# Altium footprint library TO-263-4.PcbLib: 1 footprints
Each footprint in its own frame and in the unit in brackets; x right, y up, seen from the top. Pads: shape width x height; smd on the part's side, far side on the other; paste and mask are expansions set on the pad; w line width, h text height; cw(c..) or ccw(c..) is an arc to the next point about the centre after c.
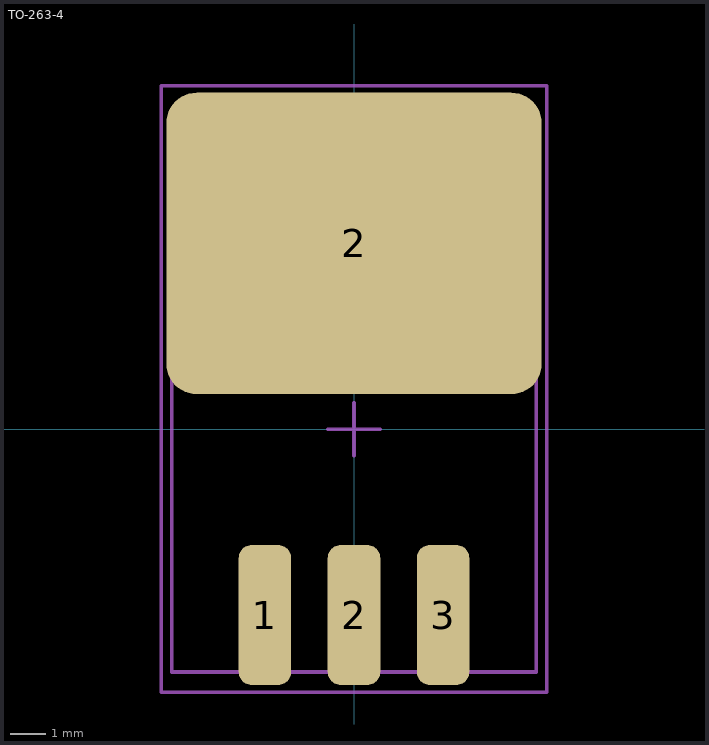
[diagram p0: the footprint, top view; thin cyan lines are the x and y axes]

## TO-263-4 [mm]
pads (4):
  rrect50% 1.5x4 smd: 1(-2.54,-5.3) 2(0,-5.3) 3(2.54,-5.3)
  rrect20% 10.7x8.6 smd: 2(0,5.3)
Mechanical 1:
  text ".Designator" at -2.25,-1.5 h1
Mechanical 13:
  lines w0.102: -5.2,-6.925 -5.2,8.925 5.2,8.925 5.2,-6.925 -5.2,-6.925
Mechanical 15:
  lines w0.102: -0.75,0 0.75,0 ; 0,-0.75 0,0.75 ; -5.5,-7.5 -5.5,9.8 5.5,9.8 5.5,-7.5 -5.5,-7.5
3D body: height 4.6, standoff -0.03, extent -5.2,-6.925 5.2,8.925